# Altium footprint library 杂项库.PcbLib: 585 footprints (part 22 of 37)
Each footprint in its own frame and in the unit in brackets; x right, y up, seen from the top. Pads: shape width x height; smd on the part's side, far side on the other; paste and mask are expansions set on the pad; w line width, h text height; cw(c..) or ccw(c..) is an arc to the next point about the centre after c.
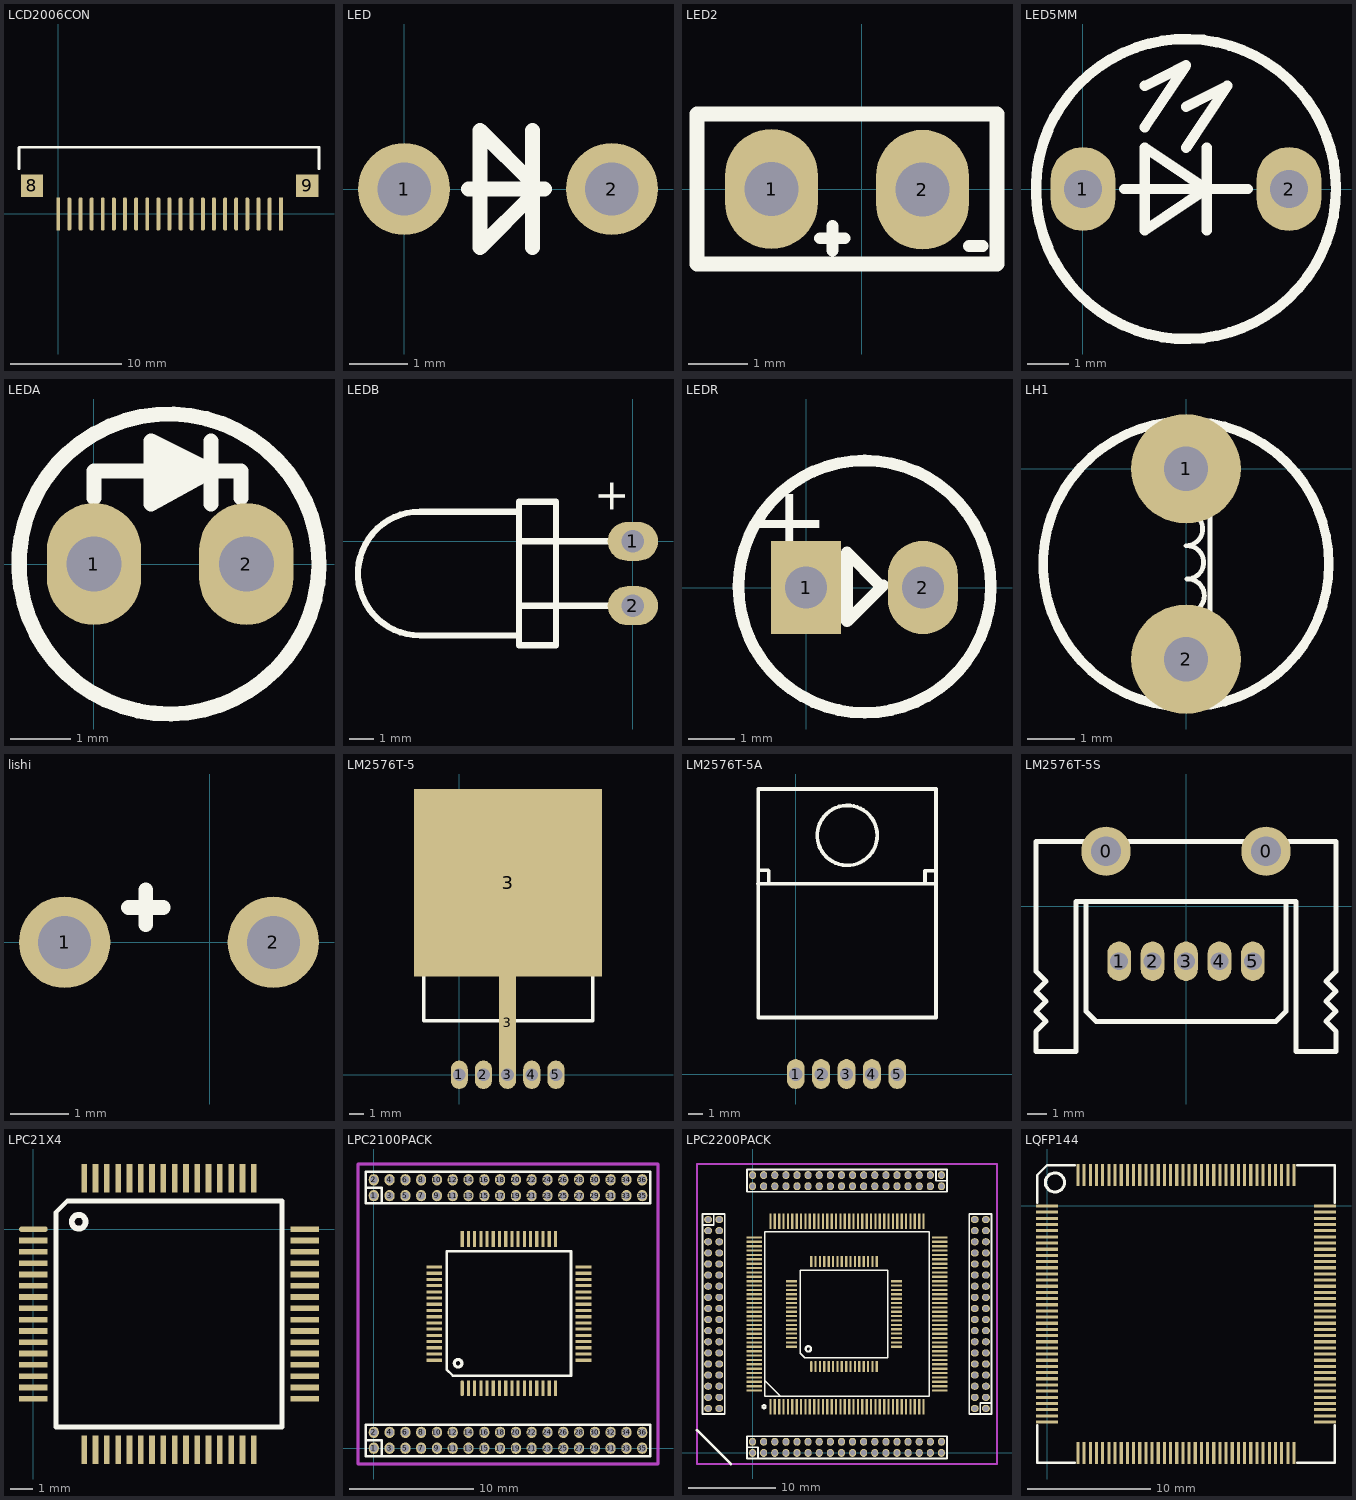
[diagram p21: the footprints below, top view; thin cyan lines are the x and y axes]

## LCD2006CON [mm]
pads (23):
  rect 0.356x3 smd: 1(0,0) 21(20.015,0)
  oval 0.356x3 smd: 2(1,0) 3(2,0) 4(3,0) 5(4,0) 6(5,0) 7(6,0) 8(7,0) 9(8,0) 10(9,0) 11(10,0) 12(11,0) 13(12,0) 14(13,0) 15(14,0) 16(15,0) 17(16,0) 18(17,0) 19(18,0) 20(18.999,0)
  rect 2x2 smd: 8(-2.362,2.54) 9(22.377,2.54)
Top Overlay:
  lines w0.254: -3.531,4.064 -3.531,5.969 23.444,5.994 23.444,4.064

## LED [mil]
pads (2):
  round 62 hole 36: 1(0,0) 2(140,0)
Top Overlay:
  lines w10: 43.31,0 94.49,0 ; 86.61,-39.37 86.61,39.37 ; 51.18,-39.37 86.61,-3.94 86.61,3.94 51.18,39.37 51.18,-39.37

## LED2 [mil]
pads (2):
  oval 62x80 hole 36: 1(-60.2,0) 2(40.71,-0.43)
Top Overlay:
  lines w7.87: -27.72,-32.91 -11.26,-32.91 ; -19.49,-41.14 -19.49,-24.68 ; 71.89,-38.11 80.98,-38.11
  lines w10: -110,-50.24 90.51,-50.24 90.51,50.24 -110,50.24 -110,-50.24

## LED5MM [mil]
pads (2):
  oval 62x80 hole 36: 1(0,0) 2(196.85,0)
Top Overlay:
  circle w10: c98.42,0 r143.31
  lines w10: 39.37,0 157.48,0 ; 59.05,59.05 98.42,118.11 59.05,98.42 ; 98.42,39.37 137.79,98.42 98.42,78.74 ; 118.11,-39.37 118.11,39.37 ; 59.05,-39.37 118.11,0 59.05,39.37 59.05,-39.37

## LEDA [mil]
pads (2):
  oval 62x80 hole 36: 1(0,0) 2(100,0)
Top Overlay:
  lines w10: 0,43.31 0,61.02 37.4,61.02 ; 45.28,49.21 45.28,70.87 55.12,66.93 55.12,53.15 ; 45.28,61.02 66.93,59.05 ; 76.77,39.37 76.77,80.71 ; 96.46,43.31 96.46,61.02 76.77,61.02 ; 147.62,-1.97 cw(c49.21,0) 147.64,0 ; 76.77,61.02 37.4,39.37 37.4,80.71 76.77,61.02

## LEDB [mil]
pads (2):
  oval 80x62 hole 36: 1(0,0) 2(0,-102.36)
Top Overlay:
  lines w10: -181.1,-149.61 -338.58,-149.61 cw(c-338.58,-51.18) -338.58,47.25 -181.1,47.24 ; -181.1,-102.36 -122.05,-102.36 -27.56,-102.36 ; -181.1,0 -122.05,0 -27.56,0 ; -125.98,-165.35 -181.1,-165.35 -181.1,62.99 -122.05,62.99 -122.05,-165.35
  text "+" at -11.81,43.31 h50

## LEDR [mil]
pads (2):
  rect 60x80 hole 36: 1(0,0)
  oval 60x80 hole 36: 2(100,0)
Top Overlay:
  circle w10: c50.1,0.7 r108
  lines w10: 158.1,0.7 ccw(c49.1,0.7) 158.1,1.7 ; 35,-29 35,30 63,2 66,2 35,-29
  text "+" at 20,80 h60

## LH1 [mm]
pads (2):
  round 2.3 hole 0.93: 1(0,0) 2(0,-4)
Top Overlay:
  circle w0.2: c0,-2 r3
  lines w0.1: 0,-0.585 0,-0.915 cw(c0,-1.265) 0,-1.615 0.02,-1.615 cw(c0.02,-1.965) 0.02,-2.315 0.04,-2.315 cw(c0.036,-2.665) 0.04,-3.015 0.04,-3.41 ; 0.505,-3 0.505,-0.905

## lishi [mil]
pads (2):
  round 62 hole 36: 1(-98.42,0) 2(43.31,0)
Top Overlay:
  lines w10: -55.12,23.62 -31.5,23.62 ; -43.31,11.81 -43.31,35.43

## LM2576T-5 [mm]
pads (7):
  oval 1.2x2 hole 0.9: 1(0,0) 2(1.7,0) 3(3.4,0) 4(5.1,0) 5(6.8,0)
  rect 1.2x8 smd: 3(3.404,3.658)
  rect 13.208x13.208 smd: 3(3.429,13.513)
Top Overlay:
  circle w0.254: c3.452,15.987 r2.007
  lines w0.254: -2.517,12.745 9.378,12.745 9.387,12.735 ; -2.513,13.65 -1.857,13.65 ; -1.831,13.624 -1.857,13.65 ; -1.806,12.745 -1.806,13.599 -1.857,13.65 ; 8.659,12.745 8.659,13.624 9.387,13.624 ; -2.513,3.795 9.387,3.795 9.387,19.095 -2.513,19.095 -2.513,3.795

## LM2576T-5A [mm]
pads (5):
  oval 1.2x2 hole 0.9: 1(0,0) 2(1.7,0) 3(3.4,0) 4(5.1,0) 5(6.8,0)
Top Overlay:
  circle w0.254: c3.452,15.987 r2.007
  lines w0.254: -2.517,12.745 9.378,12.745 9.387,12.735 ; -2.513,13.65 -1.857,13.65 ; -1.831,13.624 -1.857,13.65 ; -1.806,12.745 -1.806,13.599 -1.857,13.65 ; 8.659,12.745 8.659,13.624 9.387,13.624 ; -2.513,3.795 9.387,3.795 9.387,19.095 -2.513,19.095 -2.513,3.795

## LM2576T-5S [mm]
pads (7):
  round 2.5 hole 1.5: 0(-4.064,2.794) 0(4.064,2.794)
  oval 1.2x2 hole 0.9: 1(-3.4,-2.794) 2(-1.7,-2.794) 3(0,-2.794) 4(1.7,-2.794) 5(3.4,-2.794)
Top Overlay:
  lines w0.254: -5.08,0.254 -5.08,-0.254 -5.08,-5.334 -4.572,-5.842 4.572,-5.842 5.08,-5.334 5.08,-0.254 5.08,0.254 ; -7.62,-7.366 -5.588,-7.366 -5.588,0.254 5.588,0.254 5.588,-7.366 7.62,-7.366 7.62,-6.35 7.112,-5.842 7.62,-5.334 7.112,-4.826 7.62,-4.318 7.112,-3.81 7.62,-3.302 7.62,3.302 -7.62,3.302 -7.62,-3.302 -7.112,-3.81 -7.62,-4.318 -7.112,-4.826 -7.62,-5.334 -7.112,-5.842 -7.62,-6.35 -7.62,-7.366

## LPC21X4 [mil]
pads (64):
  oval 50x10 smd: 1(0,0)
  rect 50x10 smd: 2(0,-19.69) 3(0,-39.37) 4(0,-59.06) 5(0,-78.74) 6(0,-98.43) 7(0,-118.11) 8(0,-137.8) 9(0,-157.48) 10(0,-177.17) 11(0,-196.85) 12(0,-216.54) 13(0,-236.22) 14(0,-255.91) 15(0,-275.59) 16(0,-295.28) 33(472.44,-295.28) 34(472.44,-275.59) 35(472.44,-255.91) 36(472.44,-236.22) 37(472.44,-216.54) 38(472.44,-196.85) 39(472.44,-177.17) 40(472.44,-157.48) 41(472.44,-137.8) 42(472.44,-118.11) 43(472.44,-98.43) 44(472.44,-78.74) 45(472.44,-59.06) 46(472.44,-39.37) 47(472.44,-19.69) 48(472.44,0)
  rect 10x50 smd: 17(88.58,-383.86) 18(108.27,-383.86) 19(127.95,-383.86) 20(147.64,-383.86) 21(167.32,-383.86) 22(187.01,-383.86) 23(206.69,-383.86) 24(226.38,-383.86) 25(246.06,-383.86) 26(265.75,-383.86) 27(285.43,-383.86) 28(305.12,-383.86) 29(324.8,-383.86) 30(344.49,-383.86) 31(364.17,-383.86) 32(383.86,-383.86) 49(383.86,88.58) 50(364.17,88.58) 51(344.49,88.58) 52(324.8,88.58) 53(305.12,88.58) 54(285.43,88.58) 55(265.75,88.58) 56(246.06,88.58) 57(226.38,88.58) 58(206.69,88.58) 59(187.01,88.58) 60(167.32,88.58) 61(147.64,88.58) 62(127.95,88.58) 63(108.27,88.58) 64(88.58,88.58)
Top Overlay:
  circle w10: c78.96,13 r12.04
  lines w8: 39.37,-344.49 433.07,-344.49 433.07,49.21 59.05,49.21 39.37,29.53 39.37,-344.49

## LPC2100PACK [mil]
pads (136):
  oval 32x36 hole 24: 1(0,0) 1(0,800) 2(0,50) 2(0,850) 3(50,0) 3(50,800) 4(50,50) 4(50,850) 5(100,0) 5(100,800) 6(100,50) 6(100,850) 7(150,0) 7(150,800) 8(150,50) 8(150,850) 9(200,0) 9(200,800) 10(200,50) 10(200,850) 11(250,0) 11(250,800) 12(250,50) 12(250,850) 13(300,0) 13(300,800) 14(300,50) 14(300,850) 15(350,0) 15(350,800) 16(350,50) 16(350,850) 17(400,0) 17(400,800) 18(400,50) 18(400,850) 19(450,0) 19(450,800) 20(450,50) 20(450,850) 21(500,0) 21(500,800) 22(500,50) 22(500,850) 23(550,0) 23(550,800) 24(550,50) 24(550,850) 25(600,0) 25(600,800) 26(600,50) 26(600,850) 27(650,0) 27(650,800) 28(650,50) 28(650,850) 29(700,0) 29(700,800) 30(700,50) 30(700,850) 31(750,0) 31(750,800) 32(750,50) 32(750,850) 33(800,0) 33(800,800) 34(800,50) 34(800,850) 35(850,0) 35(850,800) 36(850,50) 36(850,850)
  oval 10x50 smd: 1(280,190)
  rect 10x50 smd: 2(299.69,190) 3(319.37,190) 4(339.06,190) 5(358.74,190) 6(378.43,190) 7(398.11,190) 8(417.8,190) 9(437.48,190) 10(457.17,190) 11(476.85,190) 12(496.54,190) 13(516.22,190) 14(535.91,190) 15(555.59,190) 16(575.28,190) 33(575.28,662.44) 34(555.59,662.44) 35(535.91,662.44) 36(516.22,662.44) 37(496.54,662.44) 38(476.85,662.44) 39(457.17,662.44) 40(437.48,662.44) 41(417.8,662.44) 42(398.11,662.44) 43(378.43,662.44) 44(358.74,662.44) 45(339.06,662.44) 46(319.37,662.44) 47(299.69,662.44) 48(280,662.44)
  rect 50x10 smd: 17(663.86,278.58) 18(663.86,298.27) 19(663.86,317.95) 20(663.86,337.64) 21(663.86,357.32) 22(663.86,377.01) 23(663.86,396.69) 24(663.86,416.38) 25(663.86,436.06) 26(663.86,455.75) 27(663.86,475.43) 28(663.86,495.12) 29(663.86,514.8) 30(663.86,534.49) 31(663.86,554.17) 32(663.86,573.86) 49(191.42,573.86) 50(191.42,554.17) 51(191.42,534.49) 52(191.42,514.8) 53(191.42,495.12) 54(191.42,475.43) 55(191.42,455.75) 56(191.42,436.06) 57(191.42,416.38) 58(191.42,396.69) 59(191.42,377.01) 60(191.42,357.32) 61(191.42,337.64) 62(191.42,317.95) 63(191.42,298.27) 64(191.42,278.58)
Top Overlay:
  circle w10: c267,268.96 r12.04
  lines w8: -25,25 25,25 25,-25 ; -25,825 25,825 25,775 ; -25,-25 875,-25 875,75 -25,75 -25,-25 ; -25,775 875,775 875,875 -25,875 -25,775 ; 230.79,249.05 250.47,229.37 624.49,229.37 624.49,623.07 230.79,623.07 230.79,249.05
Keep-Out Layer:
  lines w8: -50,-50 900,-50 900,900 -50,900 -50,-50
Mechanical 1:
  lines w8: -50,-50 900,-50 900,900 -50,900 -50,-50

## LPC2200PACK [mil]
pads (352):
  oval 36x32 hole 24: 1(-200,1050) 1(1050,200) 2(-150,1050) 2(1000,200) 3(-200,1000) 3(1050,250) 4(-150,1000) 4(1000,250) 5(-200,950) 5(1050,300) 6(-150,950) 6(1000,300) 7(-200,900) 7(1050,350) 8(-150,900) 8(1000,350) 9(-200,850) 9(1050,400) 10(-150,850) 10(1000,400) 11(-200,800) 11(1050,450) 12(-150,800) 12(1000,450) 13(-200,750) 13(1050,500) 14(-150,750) 14(1000,500) 15(-200,700) 15(1050,550) 16(-150,700) 16(1000,550) 17(-200,650) 17(1050,600) 18(-150,650) 18(1000,600) 19(-200,600) 19(1050,650) 20(-150,600) 20(1000,650) 21(-200,550) 21(1050,700) 22(-150,550) 22(1000,700) 23(-200,500) 23(1050,750) 24(-150,500) 24(1000,750) 25(-200,450) 25(1050,800) 26(-150,450) 26(1000,800) 27(-200,400) 27(1050,850) 28(-150,400) 28(1000,850) 29(-200,350) 29(1050,900) 30(-150,350) 30(1000,900) 31(-200,300) 31(1050,950) 32(-150,300) 32(1000,950) 33(-200,250) 33(1050,1000) 34(-150,250) 34(1000,1000) 35(-200,200) 35(1050,1050) 36(-150,200) 36(1000,1050)
  oval 32x36 hole 24: 1(0,0) 1(850,1250) 2(0,50) 2(850,1200) 3(50,0) 3(800,1250) 4(50,50) 4(800,1200) 5(100,0) 5(750,1250) 6(100,50) 6(750,1200) 7(150,0) 7(700,1250) 8(150,50) 8(700,1200) 9(200,0) 9(650,1250) 10(200,50) 10(650,1200) 11(250,0) 11(600,1250) 12(250,50) 12(600,1200) 13(300,0) 13(550,1250) 14(300,50) 14(550,1200) 15(350,0) 15(500,1250) 16(350,50) 16(500,1200) 17(400,0) 17(450,1250) 18(400,50) 18(450,1200) 19(400,1250) 19(450,0) 20(400,1200) 20(450,50) 21(350,1250) 21(500,0) 22(350,1200) 22(500,50) 23(300,1250) 23(550,0) 24(300,1200) 24(550,50) 25(250,1250) 25(600,0) 26(250,1200) 26(600,50) 27(200,1250) 27(650,0) 28(200,1200) 28(650,50) 29(150,1250) 29(700,0) 30(150,1200) 30(700,50) 31(100,1250) 31(750,0) 32(100,1200) 32(750,50) 33(50,1250) 33(800,0) 34(50,1200) 34(800,50) 35(0,1250) 35(850,0) 36(0,1200) 36(850,50)
  rect 10x70 smd: 1(80.6,207.59) 2(100.28,207.59) 3(119.97,207.59) 4(139.65,207.59) 5(159.34,207.59) 6(179.02,207.59) 7(198.71,207.59) 8(218.39,207.59) 9(238.08,207.59) 10(257.76,207.59) 11(277.45,207.59) 12(297.13,207.59) 13(316.82,207.59) 14(336.5,207.59) 15(356.19,207.59) 16(375.87,207.59) 17(395.56,207.59) 18(415.24,207.59) 19(434.93,207.59) 20(454.61,207.59) 21(474.3,207.59) 22(493.98,207.59) 23(513.67,207.59) 24(533.35,207.59) 25(553.04,207.59) 26(572.72,207.59) 27(592.41,207.59) 28(612.09,207.59) 29(631.78,207.59) 30(651.46,207.59) 31(671.15,207.59) 32(690.83,207.59) 33(710.52,207.59) 34(730.2,207.59) 35(749.89,207.59) 36(769.57,207.59) 73(769.57,1042.24) 74(749.89,1042.24) 75(730.2,1042.24) 76(710.52,1042.24) 77(690.83,1042.24) 78(671.15,1042.24) 79(651.46,1042.24) 80(631.78,1042.24) 81(612.09,1042.24) 82(592.41,1042.24) 83(572.72,1042.24) 84(553.04,1042.24) 85(533.35,1042.24) 86(513.67,1042.24) 87(493.98,1042.24) 88(474.3,1042.24) 89(454.61,1042.24) 90(434.93,1042.24) 91(415.24,1042.24) 92(395.56,1042.24) 93(375.87,1042.24) 94(356.19,1042.24) 95(336.5,1042.24) 96(316.82,1042.24) 97(297.13,1042.24) 98(277.45,1042.24) 99(257.76,1042.24) 100(238.08,1042.24) 101(218.39,1042.24) 102(198.71,1042.24) 103(179.02,1042.24) 104(159.34,1042.24) 105(139.65,1042.24) 106(119.97,1042.24) 107(100.28,1042.24) 108(80.6,1042.24)
  oval 10x50 smd: 1(264,389)
  rect 10x50 smd: 2(283.69,389) 3(303.37,389) 4(323.06,389) 5(342.74,389) 6(362.43,389) 7(382.11,389) 8(401.8,389) 9(421.48,389) 10(441.17,389) 11(460.85,389) 12(480.54,389) 13(500.22,389) 14(519.91,389) 15(539.59,389) 16(559.28,389) 33(559.28,861.44) 34(539.59,861.44) 35(519.91,861.44) 36(500.22,861.44) 37(480.54,861.44) 38(460.85,861.44) 39(441.17,861.44) 40(421.48,861.44) 41(401.8,861.44) 42(382.11,861.44) 43(362.43,861.44) 44(342.74,861.44) 45(323.06,861.44) 46(303.37,861.44) 47(283.69,861.44) 48(264,861.44)
  rect 50x10 smd: 17(647.86,477.58) 18(647.86,497.27) 19(647.86,516.95) 20(647.86,536.64) 21(647.86,556.32) 22(647.86,576.01) 23(647.86,595.69) 24(647.86,615.38) 25(647.86,635.06) 26(647.86,654.75) 27(647.86,674.43) 28(647.86,694.12) 29(647.86,713.8) 30(647.86,733.49) 31(647.86,753.17) 32(647.86,772.86) 49(175.42,772.86) 50(175.42,753.17) 51(175.42,733.49) 52(175.42,713.8) 53(175.42,694.12) 54(175.42,674.43) 55(175.42,654.75) 56(175.42,635.06) 57(175.42,615.38) 58(175.42,595.69) 59(175.42,576.01) 60(175.42,556.32) 61(175.42,536.64) 62(175.42,516.95) 63(175.42,497.27) 64(175.42,477.58)
  rect 70x10 smd: 37(842.41,280.43) 38(842.41,300.11) 39(842.41,319.8) 40(842.41,339.48) 41(842.41,359.17) 42(842.41,378.85) 43(842.41,398.54) 44(842.41,418.22) 45(842.41,437.91) 46(842.41,457.59) 47(842.41,477.28) 48(842.41,496.96) 49(842.41,516.65) 50(842.41,536.33) 51(842.41,556.02) 52(842.41,575.7) 53(842.41,595.39) 54(842.41,615.07) 55(842.41,634.76) 56(842.41,654.44) 57(842.41,674.13) 58(842.41,693.81) 59(842.41,713.5) 60(842.41,733.18) 61(842.41,752.87) 62(842.41,772.55) 63(842.41,792.24) 64(842.41,811.92) 65(842.41,831.61) 66(842.41,851.29) 67(842.41,870.98) 68(842.41,890.66) 69(842.41,910.35) 70(842.41,930.03) 71(842.41,949.72) 72(842.41,969.4) 109(7.76,969.4) 110(7.76,949.72) 111(7.76,930.03) 112(7.76,910.35) 113(7.76,890.66) 114(7.76,870.98) 115(7.76,851.29) 116(7.76,831.61) 117(7.76,811.92) 118(7.76,792.24) 119(7.76,772.55) 120(7.76,752.87) 121(7.76,733.18) 122(7.76,713.5) 123(7.76,693.81) 124(7.76,674.13) 125(7.76,654.44) 126(7.76,634.76) 127(7.76,615.07) 128(7.76,595.39) 129(7.76,575.7) 130(7.76,556.02) 131(7.76,536.33) 132(7.76,516.65) 133(7.76,496.96) 134(7.76,477.28) 135(7.76,457.59) 136(7.76,437.91) 137(7.76,418.22) 138(7.76,398.54) 139(7.76,378.85) 140(7.76,359.17) 141(7.76,339.48) 142(7.76,319.8) 143(7.76,300.11) 144(7.76,280.43)
Top Overlay:
  circle w10: c251,467.96 r12.04
  circle w9.84: c51.6,207.57 r7.02
  lines w7.8: 55.01,325.59 125.6,255
  lines w7.87: 55.01,254.84 795.16,254.84 795.16,994.99 55.01,994.99 55.01,254.84
  lines w8: -225,1025 -175,1025 -175,1075 ; -25,25 25,25 25,-25 ; 825,1275 825,1225 875,1225 ; 1025,175 1025,225 1075,225 ; -225,175 -225,1075 -125,1075 -125,175 -225,175 ; -25,-25 -25,75 875,75 875,-25 -25,-25 ; -25,1175 875,1175 875,1275 -25,1275 -25,1175 ; 214.79,448.05 214.79,822.07 608.49,822.07 608.49,428.37 234.47,428.37 214.79,448.05 ; 975,175 1075,175 1075,1075 975,1075 975,175
  lines w12: -250,102 -98,-50
Keep-Out Layer:
  lines w10: -250,-50 -250,1300 1100,1300 1100,-50 -250,-50
Mechanical 1:
  lines w10: -250,-50 1100,-50 1100,1300 -250,1300 -250,-50

## LQFP144 [mil]
pads (144):
  rect 70.87x10 smd: 1(-0.35,0.02) 2(-0.35,-19.66) 3(-0.35,-39.35) 4(-0.35,-59.03) 5(-0.35,-78.72) 6(-0.35,-98.4) 7(-0.35,-118.09) 8(-0.35,-137.77) 9(-0.35,-157.46) 10(-0.35,-177.14) 11(-0.35,-196.83) 12(-0.35,-216.51) 13(-0.35,-236.2) 14(-0.35,-255.88) 15(-0.35,-275.57) 16(-0.35,-295.25) 17(-0.35,-314.94) 18(-0.35,-334.62) 19(-0.35,-354.31) 20(-0.35,-373.99) 21(-0.35,-393.68) 22(-0.35,-413.36) 23(-0.35,-433.05) 24(-0.35,-452.73) 25(-0.35,-472.42) 26(-0.35,-492.1) 27(-0.35,-511.79) 28(-0.35,-531.47) 29(-0.35,-551.16) 30(-0.35,-570.84) 31(-0.35,-590.53) 32(-0.35,-610.21) 33(-0.35,-629.9) 34(-0.35,-649.58) 35(-0.35,-669.27) 36(-0.35,-688.95) 73(885.47,-688.95) 74(885.47,-669.27) 75(885.47,-649.58) 76(885.47,-629.9) 77(885.47,-610.21) 78(885.47,-590.53) 79(885.47,-570.84) 80(885.47,-551.16) 81(885.47,-531.47) 82(885.47,-511.79) 83(885.47,-492.1) 84(885.47,-472.42) 85(885.47,-452.73) 86(885.47,-433.05) 87(885.47,-413.36) 88(885.47,-393.68) 89(885.47,-373.99) 90(885.47,-354.31) 91(885.47,-334.62) 92(885.47,-314.94) 93(885.47,-295.25) 94(885.47,-275.57) 95(885.47,-255.88) 96(885.47,-236.2) 97(885.47,-216.51) 98(885.47,-196.83) 99(885.47,-177.14) 100(885.47,-157.46) 101(885.47,-137.77) 102(885.47,-118.09) 103(885.47,-98.4) 104(885.47,-78.72) 105(885.47,-59.03) 106(885.47,-39.35) 107(885.47,-19.66) 108(885.47,0.02)
  rect 10x70.87 smd: 37(98.07,-787.38) 38(117.76,-787.38) 39(137.44,-787.38) 40(157.13,-787.38) 41(176.81,-787.38) 42(196.5,-787.38) 43(216.18,-787.38) 44(235.87,-787.38) 45(255.55,-787.38) 46(275.24,-787.38) 47(294.92,-787.38) 48(314.61,-787.38) 49(334.29,-787.38) 50(353.98,-787.38) 51(373.66,-787.38) 52(393.35,-787.38) 53(413.03,-787.38) 54(432.72,-787.38) 55(452.4,-787.38) 56(472.09,-787.38) 57(491.77,-787.38) 58(511.46,-787.38) 59(531.14,-787.38) 60(550.83,-787.38) 61(570.51,-787.38) 62(590.2,-787.38) 63(609.88,-787.38) 64(629.57,-787.38) 65(649.25,-787.38) 66(668.94,-787.38) 67(688.62,-787.38) 68(708.31,-787.38) 69(727.99,-787.38) 70(747.68,-787.38) 71(767.36,-787.38) 72(787.05,-787.38) 109(787.05,98.45) 110(767.36,98.45) 111(747.68,98.45) 112(727.99,98.45) 113(708.31,98.45) 114(688.62,98.45) 115(668.94,98.45) 116(649.25,98.45) 117(629.57,98.45) 118(609.88,98.45) 119(590.2,98.45) 120(570.51,98.45) 121(550.83,98.45) 122(531.14,98.45) 123(511.46,98.45) 124(491.77,98.45) 125(472.09,98.45) 126(452.4,98.45) 127(432.72,98.45) 128(413.03,98.45) 129(393.35,98.45) 130(373.66,98.45) 131(353.98,98.45) 132(334.29,98.45) 133(314.61,98.45) 134(294.92,98.45) 135(275.24,98.45) 136(255.55,98.45) 137(235.87,98.45) 138(216.18,98.45) 139(196.5,98.45) 140(176.81,98.45) 141(157.13,98.45) 142(137.44,98.45) 143(117.76,98.45) 144(98.07,98.45)
Top Overlay:
  circle w10: c24.59,75 r30.41
  lines w7.87: -31.85,-698.79 -31.85,-818.87 88.23,-818.87 ; -31.85,9.87 -31.85,98.45 -0.35,129.94 88.23,129.94 ; 796.89,-818.87 916.97,-818.87 916.97,-698.79 ; 796.89,129.94 916.97,129.94 916.97,9.87